# Altium integrated library ST Interface DC Motor Controller.IntLib: 31 symbols
Pins are listed as number, name and electrical type; pins without a type are passive.

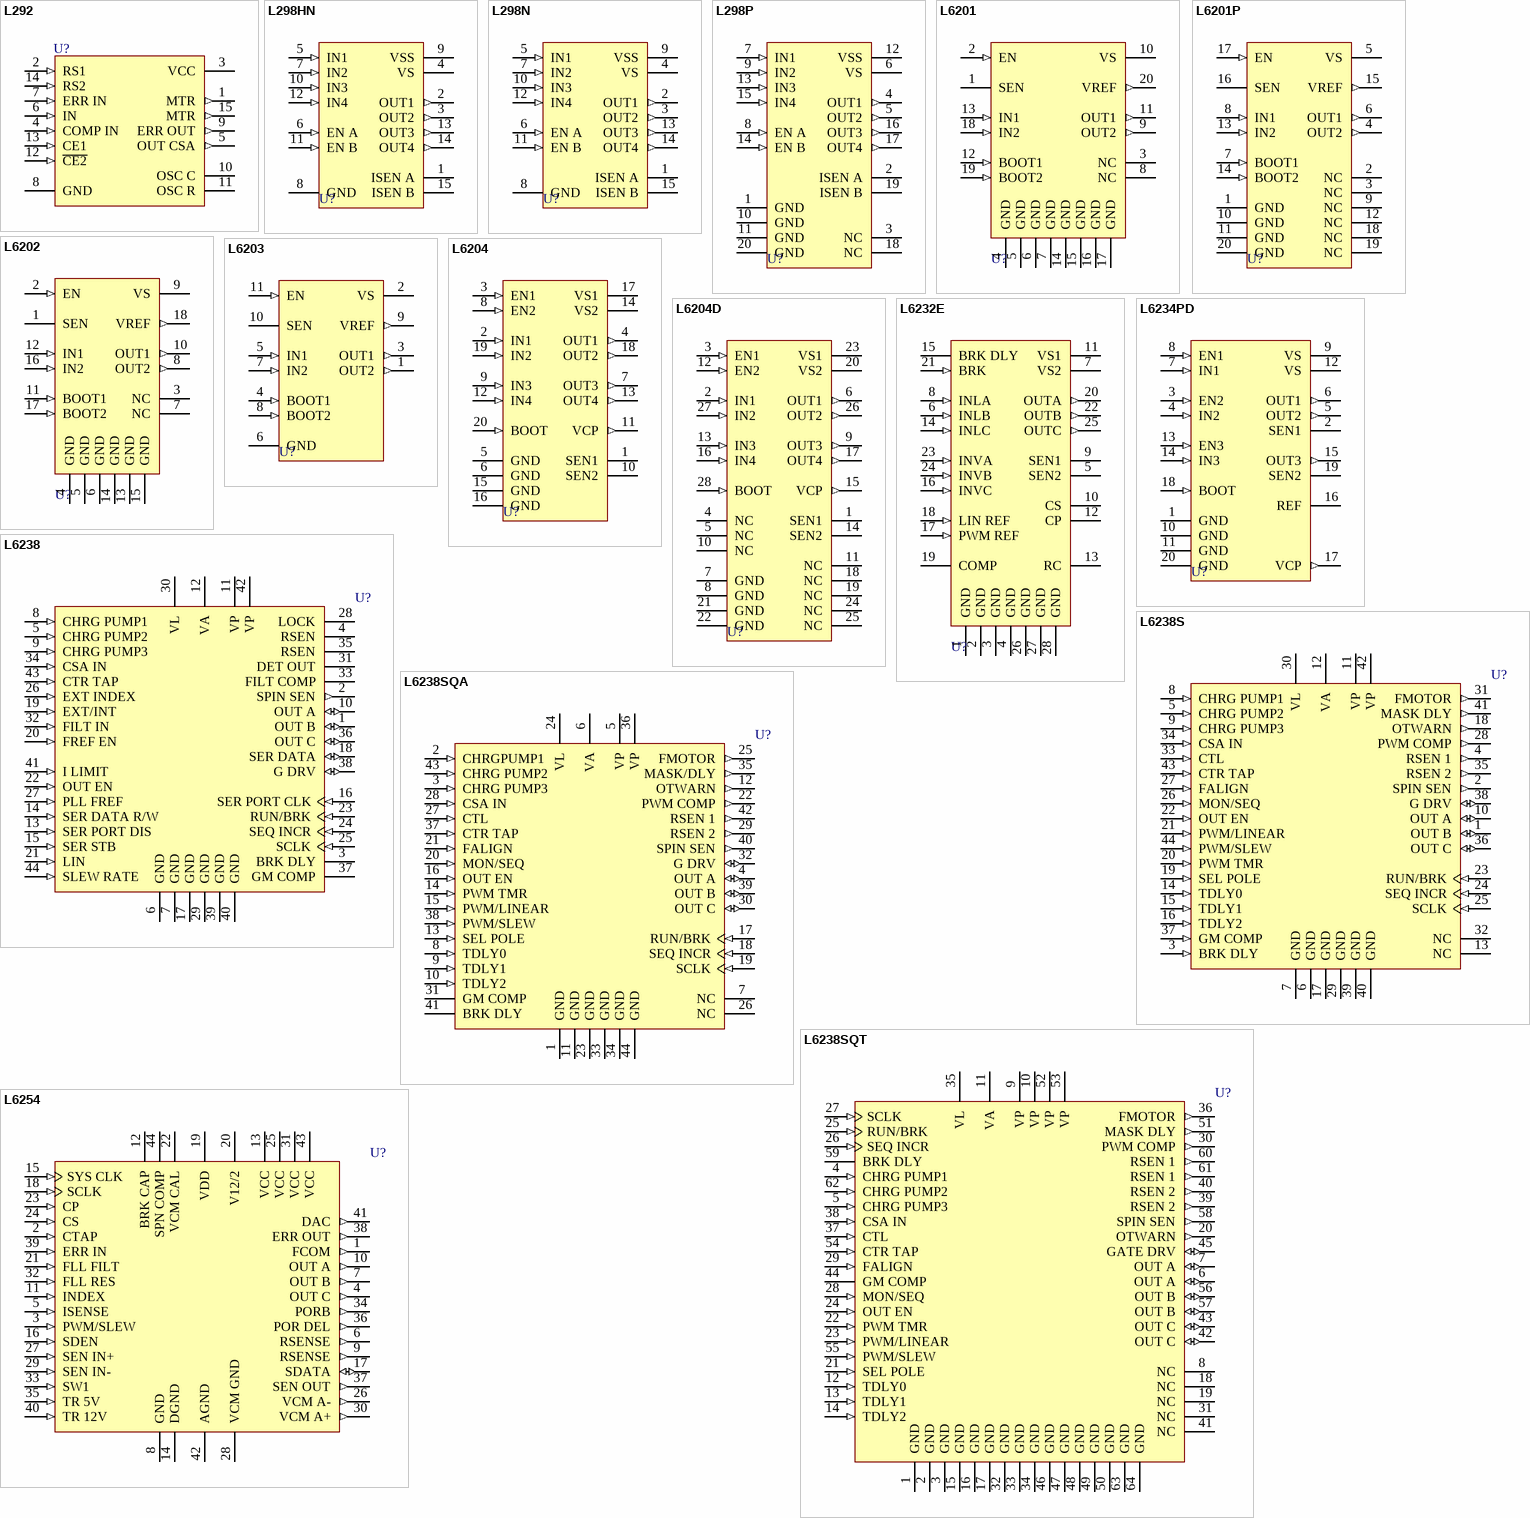
[diagram p0: symbols L292 to L6254]

## L292
designator U?
Switch-Mode Driver For DC Motor; Note: TAB connected to pin 8; Published: 8-Jun-2000; LatestRevisionDate: 17-Jul-2002; LatestRevisionNote: Re-released for DXP Platform.; DatasheetDocument: Mar-1993; PackageReference: Multiwatt15V; Publisher: Altium Limited
footprint Multiwatt15V (TO, Thru-Hole, Vertical, Heatsink Mounted; 15 Bent Staggered Leads; Pitch 1.27 mm)
pins: 1 MTR (out), 2 RS1 (in), 3 VCC (power), 4 COMP IN (in), 5 OUT CSA (out), 6 IN (in), 7 ERR IN (in), 8 GND (power), 9 ERR OUT (out), 10 OSC C, 11 OSC R, 12 ~{CE2} (in), 13 CE1 (in), 14 RS2 (in), 15 MTR (out)

## L298HN
designator U?
Dual Full Bridge Driver; Note: TAB connected to pin 8; Published: 8-Jun-2000; LatestRevisionDate: 17-Jul-2002; LatestRevisionNote: Re-released for DXP Platform.; DatasheetDocument: Jul-1999; PackageDocument: Apr-1998; PackageReference: Multiwatt15H; Publisher: Altium Limited
footprint Multiwatt15H (TO, Thru-Hole, Horizontal, Heatsink Mounted; 15 Bent Staggered Leads; Pitch 1.27 mm)
pins: 1 ISEN A, 2 OUT1 (out), 3 OUT2 (out), 4 VS (power), 5 IN1 (in), 6 EN A (in), 7 IN2 (in), 8 GND (power), 9 VSS (power), 10 IN3 (in), 11 EN B (in), 12 IN4 (in), 13 OUT3 (out), 14 OUT4 (out), 15 ISEN B

## L298N
designator U?
Dual Full Bridge Driver; Published: 8-Jun-2000; LatestRevisionDate: 17-Jul-2002; LatestRevisionNote: Re-released for DXP Platform.; DatasheetDocument: Jul-1999; PackageDocument: Apr-1998; PackageReference: Multiwatt15H; Publisher: Altium Limited
footprint Multiwatt15H (TO, Thru-Hole, Horizontal, Heatsink Mounted; 15 Bent Staggered Leads; Pitch 1.27 mm)
pins: 1 ISEN A, 2 OUT1 (out), 3 OUT2 (out), 4 VS (power), 5 IN1 (in), 6 EN A (in), 7 IN2 (in), 8 GND (power), 9 VSS (power), 10 IN3 (in), 11 EN B (in), 12 IN4 (in), 13 OUT3 (out), 14 OUT4 (out), 15 ISEN B

## L298P
designator U?
Dual Full Bridge Driver; Published: 8-Jun-2000; LatestRevisionDate: 17-Jul-2002; LatestRevisionNote: Re-released for DXP Platform.; DatasheetDocument: Jul-1999; PackageDocument: May-1998; PackageReference: POWERSO20; Publisher: Altium Limited; Code_JEDEC: MO-166
footprint POWERSO20 (Small Outline; 20 Leads; Body Width 11 mm; Pitch 1.27 mm)
pins: 1 GND (power), 2 ISEN A, 3 NC, 4 OUT1 (out), 5 OUT2 (out), 6 VS (power), 7 IN1 (in), 8 EN A (in), 9 IN2 (in), 10 GND (power), 11 GND (power), 12 VSS (power), 13 IN3 (in), 14 EN B (in), 15 IN4 (in), 16 OUT3 (out), 17 OUT4 (out), 18 NC, 19 ISEN B, 20 GND (power)

## L6201
designator U?
DMOS Full Bridge Driver; Published: 8-Jun-2000; LatestRevisionDate: 17-Jul-2002; LatestRevisionNote: Re-released for DXP Platform.; DatasheetDocument: Jul-1997; PackageDocument: Jul-2001; PackageReference: SO20; Publisher: Altium Limited; Code_JEDEC: MS-013-AC; Code_IPC: SO20W
footprint SO20 (Small Outline, Plastic; 20 Leads; Body Width 7.5 mm; Pitch 1.27 mm)
pins: 1 SEN, 2 EN (in), 3 NC, 4 GND (power), 5 GND (power), 6 GND (power), 7 GND (power), 8 NC, 9 OUT2 (out), 10 VS (power), 11 OUT1 (out), 12 BOOT1 (in), 13 IN1 (in), 14 GND (power), 15 GND (power), 16 GND (power), 17 GND (power), 18 IN2 (in), 19 BOOT2 (in), 20 VREF (out)

## L6201P
designator U?
DMOS Full Bridge Driver; Published: 8-Jun-2000; LatestRevisionDate: 17-Jul-2002; LatestRevisionNote: Re-released for DXP Platform.; DatasheetDocument: Sep-1996; PackageDocument: May-1998; PackageReference: PowerSO20; Publisher: Altium Limited; Code_JEDEC: MO-166
footprint PowerSO20 (Small Outline; 20 Leads; Body Width 11 mm; Pitch 1.27 mm)
pins: 1 GND (power), 2 NC, 3 NC, 4 OUT2 (out), 5 VS (power), 6 OUT1 (out), 7 BOOT1 (in), 8 IN1 (in), 9 NC, 10 GND (power), 11 GND (power), 12 NC, 13 IN2 (in), 14 BOOT2 (in), 15 VREF (out), 16 SEN, 17 EN (in), 18 NC, 19 NC, 20 GND (power)

## L6202
designator U?
DMOS Full Bridge Driver; Published: 8-Jun-2000; LatestRevisionDate: 17-Jul-2002; LatestRevisionNote: Re-released for DXP Platform.; DatasheetDocument: Jul-1997; PackageReference: PDIP18; Publisher: Altium Limited
footprint PDIP18 (DIP; 18 Leads; Row Spacing 7.62 mm; Pitch 2.54 mm)
pins: 1 SEN, 2 EN (in), 3 NC, 4 GND (power), 5 GND (power), 6 GND (power), 7 NC, 8 OUT2 (out), 9 VS (power), 10 OUT1 (out), 11 BOOT1 (in), 12 IN1 (in), 13 GND (power), 14 GND (power), 15 GND (power), 16 IN2 (in), 17 BOOT2 (in), 18 VREF (out)

## L6203
designator U?
DMOS Full Bridge Driver; Note: TAB connected to pin 6; Published: 8-Jun-2000; LatestRevisionDate: 17-Jul-2002; LatestRevisionNote: Re-released for DXP Platform.; DatasheetDocument: Jul-1997; PackageReference: Multiwatt11; Publisher: Altium Limited
footprint Multiwatt11 (TO, Thru-Hole, Vertical, Heatsink Mounted; 11 Bent Staggered Leads; Pitch 1.7 mm)
pins: 1 OUT2 (out), 2 VS (power), 3 OUT1 (out), 4 BOOT1 (in), 5 IN1 (in), 6 GND (power), 7 IN2 (in), 8 BOOT2 (in), 9 VREF (out), 10 SEN, 11 EN (in)

## L6204
designator U?
DMOS Dual Full Bridge Driver; Published: 8-Jun-2000; LatestRevisionDate: 17-Jul-2002; LatestRevisionNote: Re-released for DXP Platform.; DatasheetDocument: Mar-1994; PackageDocument: Mar-1995; PackageReference: PwrDIP20; Publisher: Altium Limited
footprint PwrDIP20 (DIP; 20 Leads; Row Spacing 7.62 mm; Pitch 2.54 mm)
pins: 1 SEN1, 2 IN1 (in), 3 EN1 (in), 4 OUT1 (out), 5 GND (power), 6 GND (power), 7 OUT3 (out), 8 EN2 (in), 9 IN3 (in), 10 SEN2, 11 VCP (out), 12 IN4 (in), 13 OUT4 (out), 14 VS2 (power), 15 GND (power), 16 GND (power), 17 VS1 (power), 18 OUT2 (out), 19 IN2 (in), 20 BOOT (in)

## L6204D
designator U?
DMOS Dual Full Bridge Driver; Published: 8-Jun-2000; LatestRevisionDate: 17-Jul-2002; LatestRevisionNote: Re-released for DXP Platform.; DatasheetDocument: Mar-1994; PackageDocument: Jul-2001; PackageReference: SO28; Publisher: Altium Limited; Code_IPC: SO28W
footprint SO28 (Small Outline, Plastic; 28 Leads; Body Width 7.5 mm; Pitch 1.27 mm)
pins: 1 SEN1, 2 IN1 (in), 3 EN1 (in), 4 NC, 5 NC, 6 OUT1 (out), 7 GND (power), 8 GND (power), 9 OUT3 (out), 10 NC, 11 NC, 12 EN2 (in), 13 IN3 (in), 14 SEN2, 15 VCP (out), 16 IN4 (in), 17 OUT4 (out), 18 NC, 19 NC, 20 VS2 (power), 21 GND (power), 22 GND (power), 23 VS1 (power), 24 NC, 25 NC, 26 OUT2 (out), 27 IN2 (in), 28 BOOT (in)

## L6232E
designator U?
Spindle Driver; Published: 8-Jun-2000; LatestRevisionDate: 17-Jul-2002; LatestRevisionNote: Re-released for DXP Platform.; DatasheetDocument: Oct-1996; PackageDocument: Jan-1995; PackageReference: PLCC28; Publisher: Altium Limited; Code_IPC: PLCC-28
footprint PLCC28 (Leaded Chip Carrier; 28 Leads; Body 11.5 x 11.5 mm)
pins: 1 GND (power), 2 GND (power), 3 GND (power), 4 GND (power), 5 SEN2, 6 INLB (in), 7 VS2 (power), 8 INLA (in), 9 SEN1, 10 CS, 11 VS1 (power), 12 CP, 13 RC, 14 INLC (in), 15 BRK DLY, 16 INVC (in), 17 PWM REF (in), 18 LIN REF (in), 19 COMP, 20 OUTA (out), 21 BRK (in), 22 OUTB (out), 23 INVA (in), 24 INVB (in), 25 OUTC (out), 26 GND (power), 27 GND (power), 28 GND (power)

## L6234PD
designator U?
Three Phase Motor Driver; Published: 8-Jun-2000; LatestRevisionDate: 17-Jul-2002; LatestRevisionNote: Re-released for DXP Platform.; DatasheetDocument: Mar-1998; PackageDocument: May-1998; PackageReference: PowerSO20; Publisher: Altium Limited; Code_JEDEC: MO-166
footprint PowerSO20 (Small Outline; 20 Leads; Body Width 11 mm; Pitch 1.27 mm)
pins: 1 GND (power), 2 SEN1, 3 EN2 (in), 4 IN2 (in), 5 OUT2 (out), 6 OUT1 (out), 7 IN1 (in), 8 EN1 (in), 9 VS (power), 10 GND (power), 11 GND (power), 12 VS (power), 13 EN3 (in), 14 IN3 (in), 15 OUT3 (out), 16 REF, 17 VCP (out), 18 BOOT (in), 19 SEN2, 20 GND (power)

## L6238
designator U?
Sensorless Spindle Motor Controller; Published: 8-Jun-2000; LatestRevisionDate: 17-Jul-2002; LatestRevisionNote: Re-released for DXP Platform.; DatasheetDocument: Jun-1993; PackageDocument: Feb-1997; PackageReference: PLCC44A; Publisher: Altium Limited; Code_IPC: PLCC-44
footprint PLCC44A (Leaded Chip Carrier; 44 Leads; Body 16.5 x 16.5 mm)
pins: 1 OUT B (io), 2 SPIN SEN (out), 3 BRK DLY, 4 RSEN (hiz), 5 CHRG PUMP2 (in), 6 GND (power), 7 GND (power), 8 CHRG PUMP1 (in), 9 CHRG PUMP3 (in), 10 OUT A (io), 11 VP (power), 12 VA (power), 13 SER PORT DIS (in), 14 SER DATA R/W (in), 15 SER STB (in), 16 SER PORT CLK (in), 17 GND (power), 18 SER DATA (io), 19 EXT/INT (in), 20 FREF EN (in), 21 LIN (in), 22 OUT EN (in), 23 RUN/BRK (in), 24 SEQ INCR (in), 25 SCLK (in), 26 EXT INDEX (in), 27 PLL FREF (in), 28 LOCK (hiz), 29 GND (power), 30 VL (power), 31 DET OUT (hiz), 32 FILT IN (in), 33 FILT COMP (hiz), 34 CSA IN (in), 35 RSEN (hiz), 36 OUT C (io), 37 GM COMP, 38 G DRV (io), 39 GND (power), 40 GND (power), 41 I LIMIT (in), 42 VP (power), 43 CTR TAP (in), 44 SLEW RATE (in)

## L6238S
designator U?
12V Sensorless Spindle Motor Controller; Published: 8-Jun-2000; LatestRevisionDate: 17-Jul-2002; LatestRevisionNote: Re-released for DXP Platform.; DatasheetDocument: Oct-1995; PackageDocument: Feb-1997; PackageReference: PLCC44A; Publisher: Altium Limited; Code_IPC: PLCC-44
footprint PLCC44A (Leaded Chip Carrier; 44 Leads; Body 16.5 x 16.5 mm)
pins: 1 OUT B (io), 2 SPIN SEN (out), 3 BRK DLY (in), 4 RSEN 1 (out), 5 CHRG PUMP2 (in), 6 GND (power), 7 GND (power), 8 CHRG PUMP1 (in), 9 CHRG PUMP3 (in), 10 OUT A (io), 11 VP (power), 12 VA (power), 13 NC, 14 TDLY0 (in), 15 TDLY1 (in), 16 TDLY2 (in), 17 GND (power), 18 OTWARN (out), 19 SEL POLE (in), 20 PWM TMR (in), 21 PWM/LINEAR (in), 22 OUT EN (in), 23 RUN/BRK (in), 24 SEQ INCR (in), 25 SCLK (in), 26 MON/SEQ (in), 27 FALIGN (in), 28 PWM COMP (out), 29 GND (power), 30 VL (power), 31 FMOTOR (out), 32 NC, 33 CTL (in), 34 CSA IN (in), 35 RSEN 2 (out), 36 OUT C (io), 37 GM COMP (in), 38 G DRV (io), 39 GND (power), 40 GND (power), 41 MASK DLY (out), 42 VP (power), 43 CTR TAP (in), 44 PWM/SLEW (in)

## L6238SQA
designator U?
12V Sensorless Spindle Motor Controller; Published: 8-Jun-2000; LatestRevisionDate: 17-Jul-2002; LatestRevisionNote: Re-released for DXP Platform.; DatasheetDocument: Oct-1995; PackageReference: PQFP44; Publisher: Altium Limited
footprint PQFP44 (QFP; 44 Leads; Body 14 x 14 mm; Pitch 1 mm)
pins: 1 GND (power), 2 CHRGPUMP1 (in), 3 CHRG PUMP3 (in), 4 OUT A (io), 5 VP (power), 6 VA (power), 7 NC, 8 TDLY0 (in), 9 TDLY1 (in), 10 TDLY2 (in), 11 GND (power), 12 OTWARN (out), 13 SEL POLE (in), 14 PWM TMR (in), 15 PWM/LINEAR (in), 16 OUT EN (in), 17 RUN/BRK (in), 18 SEQ INCR (in), 19 SCLK (in), 20 MON/SEQ (in), 21 FALIGN (in), 22 PWM COMP (out), 23 GND (power), 24 VL (power), 25 FMOTOR (out), 26 NC, 27 CTL (in), 28 CSA IN (in), 29 RSEN 2 (out), 30 OUT C (io), 31 GM COMP, 32 G DRV (io), 33 GND (power), 34 GND (power), 35 MASK/DLY (out), 36 VP (power), 37 CTR TAP (in), 38 PWM/SLEW (in), 39 OUT B (io), 40 SPIN SEN (out), 41 BRK DLY, 42 RSEN 1 (out), 43 CHRG PUMP2 (in), 44 GND (power)

## L6238SQT
designator U?
12V Sensorless Spindle Motor Controller; Published: 8-Jun-2000; LatestRevisionDate: 26-May-2004; LatestRevisionNote: PCB Footprint adjusted to match with IPC-SM-782.; DatasheetDocument: Oct-1995; PackageDocument: Jun-2003; PackageReference: TQFP64; Publisher: Altium Limited; Code_JEDEC: MS-026; Code_IPC: SQFP10X10-64
footprint TQFP64 (QFP, Thin; 64 Leads; Body 10 x 10 mm; Pitch 0.5 mm)
pins: 1 GND (power), 2 GND (power), 3 GND (power), 4 CHRG PUMP1 (in), 5 CHRG PUMP3 (in), 6 OUT A (io), 7 OUT A (io), 8 NC, 9 VP (power), 10 VP (power), 11 VA (power), 12 TDLY0 (in), 13 TDLY1 (in), 14 TDLY2 (in), 15 GND (power), 16 GND (power), 17 GND (power), 18 NC, 19 NC, 20 OTWARN (out), 21 SEL POLE (in), 22 PWM TMR (in), 23 PWM/LINEAR (in), 24 OUT EN (in), 25 RUN/BRK (in), 26 SEQ INCR (in), 27 SCLK (in), 28 MON/SEQ (in), 29 FALIGN (in), 30 PWM COMP (out), 31 NC, 32 GND (power), 33 GND (power), 34 GND (power), 35 VL (power), 36 FMOTOR (out), 37 CTL (in), 38 CSA IN (in), 39 RSEN 2 (out), 40 RSEN 2 (out), 41 NC, 42 OUT C (io), 43 OUT C (io), 44 GM COMP, 45 GATE DRV (io), 46 GND (power), 47 GND (power), 48 GND (power), 49 GND (power), 50 GND (power), 51 MASK DLY (out), 52 VP (power), 53 VP (power), 54 CTR TAP (in), 55 PWM/SLEW (in), 56 OUT B (io), 57 OUT B (io), 58 SPIN SEN (out), 59 BRK DLY, 60 RSEN 1 (out), 61 RSEN 1 (out), 62 CHRG PUMP2 (in), 63 GND (power), 64 GND (power)

## L6254
designator U?
12V Disk Driver Spindle & VCM, Power & Control Combo; Published: 8-Jun-2000; LatestRevisionDate: 26-May-2004; LatestRevisionNote: PCB pad width adjusted to match IPC-SM-782.; DatasheetDocument: Apr-1999; PackageDocument: Oct-2003; PackageReference: TQFP44; Publisher: Altium Limited
footprint TQFP44 (QFP, Plastic, Thin; 44 Leads; Body 10 x 10 mm; Pitch 0.8 mm)
pins: 1 FCOM (out), 2 CTAP (in), 3 PWM/SLEW (in), 4 OUT C (out), 5 ISENSE (in), 6 RSENSE (out), 7 OUT B (out), 8 GND (power), 9 RSENSE (out), 10 OUT A (out), 11 INDEX (in), 12 BRK CAP, 13 VCC (power), 14 DGND (power), 15 SYS CLK (in), 16 SDEN (in), 17 SDATA (io), 18 SCLK (in), 19 VDD (power), 20 V12/2 (power), 21 FLL FILT (in), 22 VCM CAL, 23 CP (in), 24 CS (in), 25 VCC (power), 26 VCM A- (out), 27 SEN IN+ (in), 28 VCM GND (power), 29 SEN IN- (in), 30 VCM A+ (out), 31 VCC (power), 32 FLL RES (in), 33 SW1 (in), 34 PORB (out), 35 TR 5V (in), 36 POR DEL (out), 37 SEN OUT (out), 38 ERR OUT (out), 39 ERR IN (in), 40 TR 12V (in), 41 DAC (out), 42 AGND (power), 43 VCC (power), 44 SPN COMP

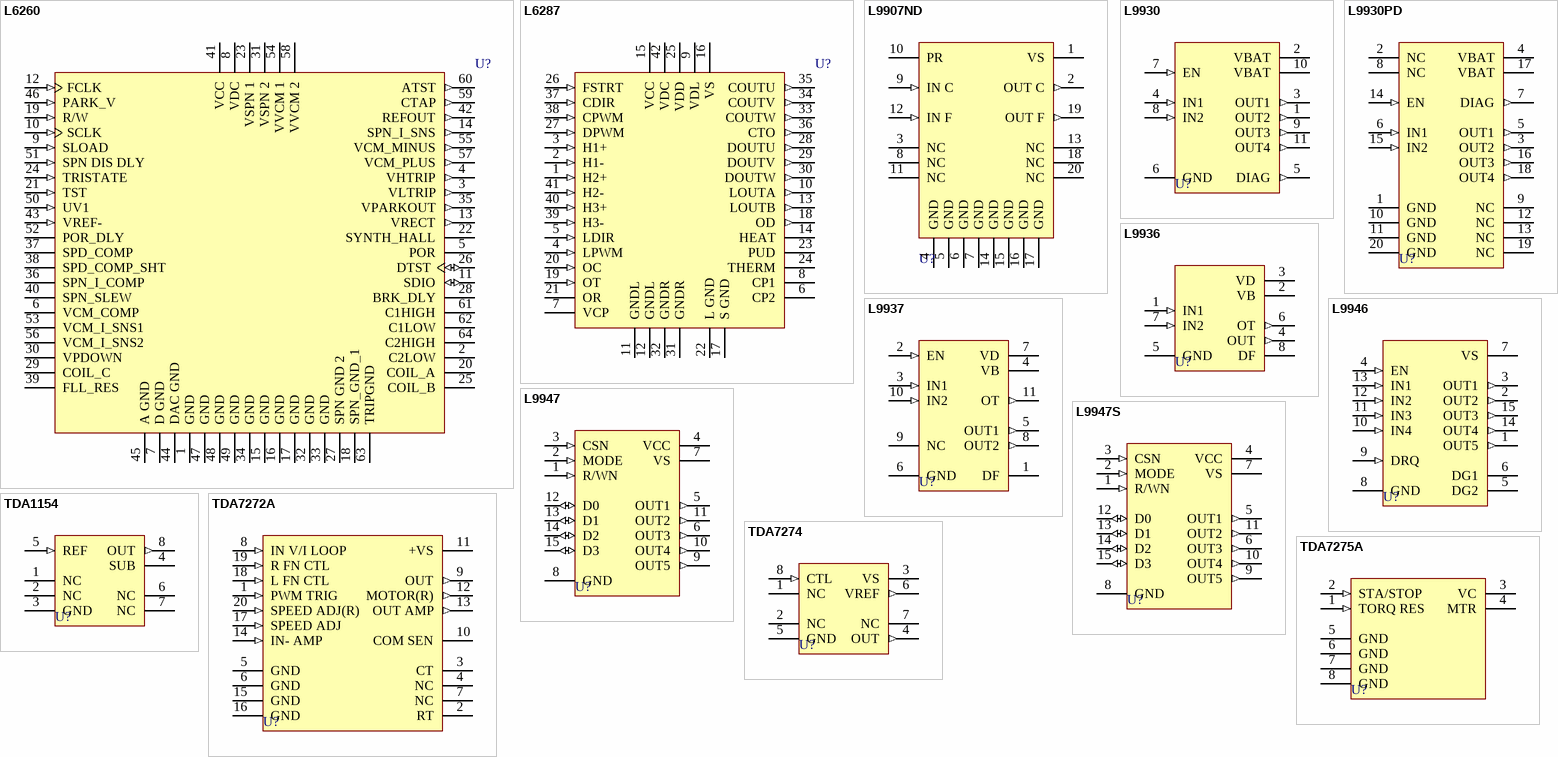
[diagram p1: symbols L6260 to TDA7275A]

## L6260
designator U?
4.5 - 5.5V Disk Driver Spindle & VCM, Power & Control Combo's; Published: 8-Jun-2000; LatestRevisionDate: 26-May-2004; LatestRevisionNote: PCB Footprint adjusted to match with IPC-SM-782.; DatasheetDocument: Nov-1996; PackageDocument: Jun-2003; PackageReference: TQFP64; Publisher: Altium Limited; Code_JEDEC: MS-026; Code_IPC: SQFP10X10-64
footprint TQFP64 (QFP, Thin; 64 Leads; Body 10 x 10 mm; Pitch 0.5 mm)
pins: 1 GND (power), 2 C2LOW, 3 VLTRIP (out), 4 VHTRIP (out), 5 POR (oc), 6 VCM_COMP, 7 D GND (power), 8 VDC (power), 9 SLOAD (in), 10 SCLK (in), 11 SDIO (io), 12 FCLK (in), 13 VRECT (out), 14 SPN_I_SNS (out), 15 GND (power), 16 GND (power), 17 GND (power), 18 SPN_GND_1 (power), 19 R/W (in), 20 COIL_A, 21 TST (in), 22 SYNTH_HALL (hiz), 23 VSPN 1 (power), 24 TRISTATE (in), 25 COIL_B, 26 DTST (io), 27 SPN GND 2 (power), 28 BRK_DLY, 29 COIL_C, 30 VPDOWN, 31 VSPN 2 (power), 32 GND (power), 33 GND (power), 34 GND (power), 35 VPARKOUT (out), 36 SPN_I_COMP, 37 SPD_COMP, 38 SPD_COMP_SHT, 39 FLL_RES, 40 SPN_SLEW, 41 VCC (power), 42 REFOUT (out), 43 VREF- (in), 44 DAC GND (power), 45 A GND (power), 46 PARK_V (in), 47 GND (power), 48 GND (power), 49 GND (power), 50 UV1 (in), 51 SPN DIS DLY (in), 52 POR_DLY, 53 VCM_I_SNS1, 54 VVCM 1 (power), 55 VCM_MINUS (out), 56 VCM_I_SNS2, 57 VCM_PLUS (out), 58 VVCM 2 (power), 59 CTAP (out), 60 ATST (out), 61 C1HIGH, 62 C1LOW, 63 TRIPGND (power), 64 C2HIGH

## L6287
designator U?
Power Combo Driver; Published: 8-Jun-2000; LatestRevisionDate: 17-Jul-2002; LatestRevisionNote: Re-released for DXP Platform.; DatasheetDocument: Feb-1997; PackageDocument: Oct-2003; PackageReference: PSDIP42; Publisher: Altium Limited
footprint PSDIP42 (DIP, Plastic Shrink; 42 Leads; Row Spacing 15.24 mm; Pitch 1.78 mm)
pins: 1 H2+ (in), 2 H1- (in), 3 H1+ (in), 4 LPWM (in), 5 LDIR (in), 6 CP2, 7 VCP, 8 CP1, 9 VDL (power), 10 LOUTA (out), 11 GNDL (power), 12 GNDL (power), 13 LOUTB (out), 14 HEAT (oc), 15 VCC (power), 16 VS (power), 17 S GND (power), 18 OD (out), 19 OT (in), 20 OC (in), 21 OR, 22 L GND (power), 23 PUD (oc), 24 THERM (oc), 25 VDD (power), 26 FSTRT (in), 27 DPWM (in), 28 DOUTU (out), 29 DOUTV (out), 30 DOUTW (out), 31 GNDR (power), 32 GNDR (power), 33 COUTW (out), 34 COUTV (out), 35 COUTU (out), 36 CTO (out), 37 CDIR (in), 38 CPWM (in), 39 H3- (in), 40 H3+ (in), 41 H2- (in), 42 VDC (power)

## L9907ND
designator U?
Motor Bridge For Headlight Adjustment; Published: 8-Jun-2000; LatestRevisionDate: 17-Jul-2002; LatestRevisionNote: Re-released for DXP Platform.; DatasheetDocument: Dec-1996; PackageDocument: Jul-2001; PackageReference: SO20; Publisher: Altium Limited; Code_JEDEC: MS-013-AC; Code_IPC: SO20W
footprint SO20 (Small Outline, Plastic; 20 Leads; Body Width 7.5 mm; Pitch 1.27 mm)
pins: 1 VS (power), 2 OUT C (out), 3 NC, 4 GND (power), 5 GND (power), 6 GND (power), 7 GND (power), 8 NC, 9 IN C (in), 10 PR, 11 NC, 12 IN F (in), 13 NC, 14 GND (power), 15 GND (power), 16 GND (power), 17 GND (power), 18 NC, 19 OUT F (out), 20 NC

## L9930
designator U?
Dual Full Bridge; Published: 8-Jun-2000; LatestRevisionDate: 17-Jul-2002; LatestRevisionNote: Re-released for DXP Platform.; DatasheetDocument: Oct-1996; PackageDocument: Oct-1997; PackageReference: Multiwatt11V; Publisher: Altium Limited
footprint Multiwatt11V (TO, Thru-Hole, Vertical, Heatsink Mounted; 11 Bent Staggered Leads; Pitch 1.7 mm)
pins: 1 OUT2 (out), 2 VBAT (power), 3 OUT1 (out), 4 IN1 (in), 5 DIAG (out), 6 GND (power), 7 EN (in), 8 IN2 (in), 9 OUT3 (out), 10 VBAT (power), 11 OUT4 (out)

## L9930PD
designator U?
Dual Full Bridge; Published: 8-Jun-2000; LatestRevisionDate: 17-Jul-2002; LatestRevisionNote: Re-released for DXP Platform.; DatasheetDocument: Oct-1996; PackageDocument: May-1998; PackageReference: PowerSO20; Publisher: Altium Limited; Code_JEDEC: MO-166
footprint PowerSO20 (Small Outline; 20 Leads; Body Width 11 mm; Pitch 1.27 mm)
pins: 1 GND (power), 2 NC, 3 OUT2 (out), 4 VBAT (power), 5 OUT1 (out), 6 IN1 (in), 7 DIAG (out), 8 NC, 9 NC, 10 GND (power), 11 GND (power), 12 NC, 13 NC, 14 EN (in), 15 IN2 (in), 16 OUT3 (out), 17 VBAT (power), 18 OUT4 (out), 19 NC, 20 GND (power)

## L9936
designator U?
Half Bridge Motor Driver; Published: 8-Jun-2000; LatestRevisionDate: 17-Jul-2002; LatestRevisionNote: Re-released for DXP Platform.; DatasheetDocument: Dec-1991; PackageDocument: Dec-1998; PackageReference: Multiwatt8; Publisher: Altium Limited
footprint Multiwatt8 (TO, Thru-Hole, Vertical, Heatsink Mounted; 8 In-Line Leads; Pitch 2.54 mm)
pins: 1 IN1 (in), 2 VB (power), 3 VD (power), 4 OUT (out), 5 GND (power), 6 OT (out), 7 IN2 (in), 8 DF (oc)

## L9937
designator U?
Full Bridge Motor Driver; Published: 8-Jun-2000; LatestRevisionDate: 17-Jul-2002; LatestRevisionNote: Re-released for DXP Platform.; DatasheetDocument: Nov-1991; PackageReference: Multiwatt11; Publisher: Altium Limited
footprint Multiwatt11 (TO, Thru-Hole, Vertical, Heatsink Mounted; 11 Bent Staggered Leads; Pitch 1.7 mm)
pins: 1 DF (oc), 2 EN (in), 3 IN1 (in), 4 VB (power), 5 OUT1 (out), 6 GND (power), 7 VD (power), 8 OUT2 (out), 9 NC, 10 IN2 (in), 11 OT (out)

## L9946
designator U?
Multiple Half Bridge Driver; Published: 8-Jun-2000; LatestRevisionDate: 17-Jul-2002; LatestRevisionNote: Re-released for DXP Platform.; DatasheetDocument: Apr-1992; PackageReference: Multiwatt15V; Publisher: Altium Limited
footprint Multiwatt15V (TO, Thru-Hole, Vertical, Heatsink Mounted; 15 Bent Staggered Leads; Pitch 1.27 mm)
pins: 1 OUT5 (out), 2 OUT2 (out), 3 OUT1 (out), 4 EN (in), 5 DG2 (oc), 6 DG1 (oc), 7 VS (power), 8 GND (power), 9 DRQ (in), 10 IN4 (in), 11 IN3 (in), 12 IN2 (in), 13 IN1 (in), 14 OUT4 (out), 15 OUT3 (out)

## L9947
designator U?
Quad Half Bridge and Single High Side Driver; Published: 8-Jun-2000; LatestRevisionDate: 17-Jul-2002; LatestRevisionNote: Re-released for DXP Platform.; DatasheetDocument: Apr-1999; PackageReference: Multiwatt15V; Publisher: Altium Limited
footprint Multiwatt15V (TO, Thru-Hole, Vertical, Heatsink Mounted; 15 Bent Staggered Leads; Pitch 1.27 mm)
pins: 1 R/WN (in), 2 MODE (in), 3 CSN (in), 4 VCC (power), 5 OUT1 (out), 6 OUT3 (out), 7 VS (power), 8 GND (power), 9 OUT5 (out), 10 OUT4 (out), 11 OUT2 (out), 12 D0 (io), 13 D1 (io), 14 D2 (io), 15 D3 (io)

## L9947S
designator U?
Quad Half Bridge and Single High Side Driver; Published: 8-Jun-2000; LatestRevisionDate: 17-Jul-2002; LatestRevisionNote: Re-released for DXP Platform.; DatasheetDocument: Apr-1999; PackageReference: Multiwatt15V; Publisher: Altium Limited
footprint Multiwatt15V (TO, Thru-Hole, Vertical, Heatsink Mounted; 15 Bent Staggered Leads; Pitch 1.27 mm)
pins: 1 R/WN (in), 2 MODE (in), 3 CSN (in), 4 VCC (power), 5 OUT1 (out), 6 OUT3 (out), 7 VS (power), 8 GND (power), 9 OUT5 (out), 10 OUT4 (out), 11 OUT2 (out), 12 D0 (io), 13 D1 (io), 14 D2 (io), 15 D3 (io)

## TDA1154
designator U?
Speed Regulator For DC Motor; Published: 8-Jun-2000; LatestRevisionDate: 17-Jul-2002; LatestRevisionNote: Re-released for DXP Platform.; DatasheetDocument: Jun-1988; PackageReference: DIP8; Publisher: Altium Limited; Code_JEDEC: MO-001-AN
footprint DIP8 (DIP; 8 Leads; Row Spacing 7.62 mm; Pitch 2.54 mm)
pins: 1 NC, 2 NC, 3 GND (power), 4 SUB (power), 5 REF (in), 6 NC, 7 NC, 8 OUT (out)

## TDA7272A
designator U?
High Performance Motor Speed Regulator; Published: 8-Jun-2000; LatestRevisionDate: 17-Jul-2002; LatestRevisionNote: Re-released for DXP Platform.; DatasheetDocument: Jun-1992; PackageDocument: Mar-1995; PackageReference: PwrDIP20; Publisher: Altium Limited
footprint PwrDIP20 (DIP; 20 Leads; Row Spacing 7.62 mm; Pitch 2.54 mm)
pins: 1 PWM TRIG (in), 2 RT, 3 CT, 4 NC, 5 GND (power), 6 GND (power), 7 NC, 8 IN V/I LOOP (in), 9 OUT (out), 10 COM SEN (oe), 11 +VS (power), 12 MOTOR(R) (out), 13 OUT AMP (out), 14 IN- AMP (in), 15 GND (power), 16 GND (power), 17 SPEED ADJ (in), 18 L FN CTL (in), 19 R FN CTL (in), 20 SPEED ADJ(R) (in)

## TDA7274
designator U?
Low Voltage DC Motor Speed Controller; Published: 8-Jun-2000; LatestRevisionDate: 17-Jul-2002; LatestRevisionNote: Re-released for DXP Platform.; DatasheetDocument: Nov-1998; PackageReference: DIP8; Publisher: Altium Limited; Code_JEDEC: MO-001-AN
footprint DIP8 (DIP; 8 Leads; Row Spacing 7.62 mm; Pitch 2.54 mm)
pins: 1 NC, 2 NC, 3 VS (power), 4 OUT (out), 5 GND (power), 6 VREF (out), 7 NC, 8 CTL (in)

## TDA7275A
designator U?
Motor Speed Regulator; Published: 8-Jun-2000; LatestRevisionDate: 17-Jul-2002; LatestRevisionNote: Re-released for DXP Platform.; DatasheetDocument: May-1997; PackageDocument: Sep-1988; PackageReference: MDIP8; Publisher: Altium Limited
footprint MDIP8 (DIP; 8 Leads; Row Spacing 7.62 mm; Pitch 2.54 mm)
pins: 1 TORQ RES (in), 2 STA/STOP (in), 3 VC (power), 4 MTR (oc), 5 GND (power), 6 GND (power), 7 GND (power), 8 GND (power)